# Altium footprint library Master_PcbLib.PcbLib: 18 footprints (part 1 of 2)
Each footprint in its own frame and in the unit in brackets; x right, y up, seen from the top. Pads: shape width x height; smd on the part's side, far side on the other; paste and mask are expansions set on the pad; w line width, h text height; cw(c..) or ccw(c..) is an arc to the next point about the centre after c.
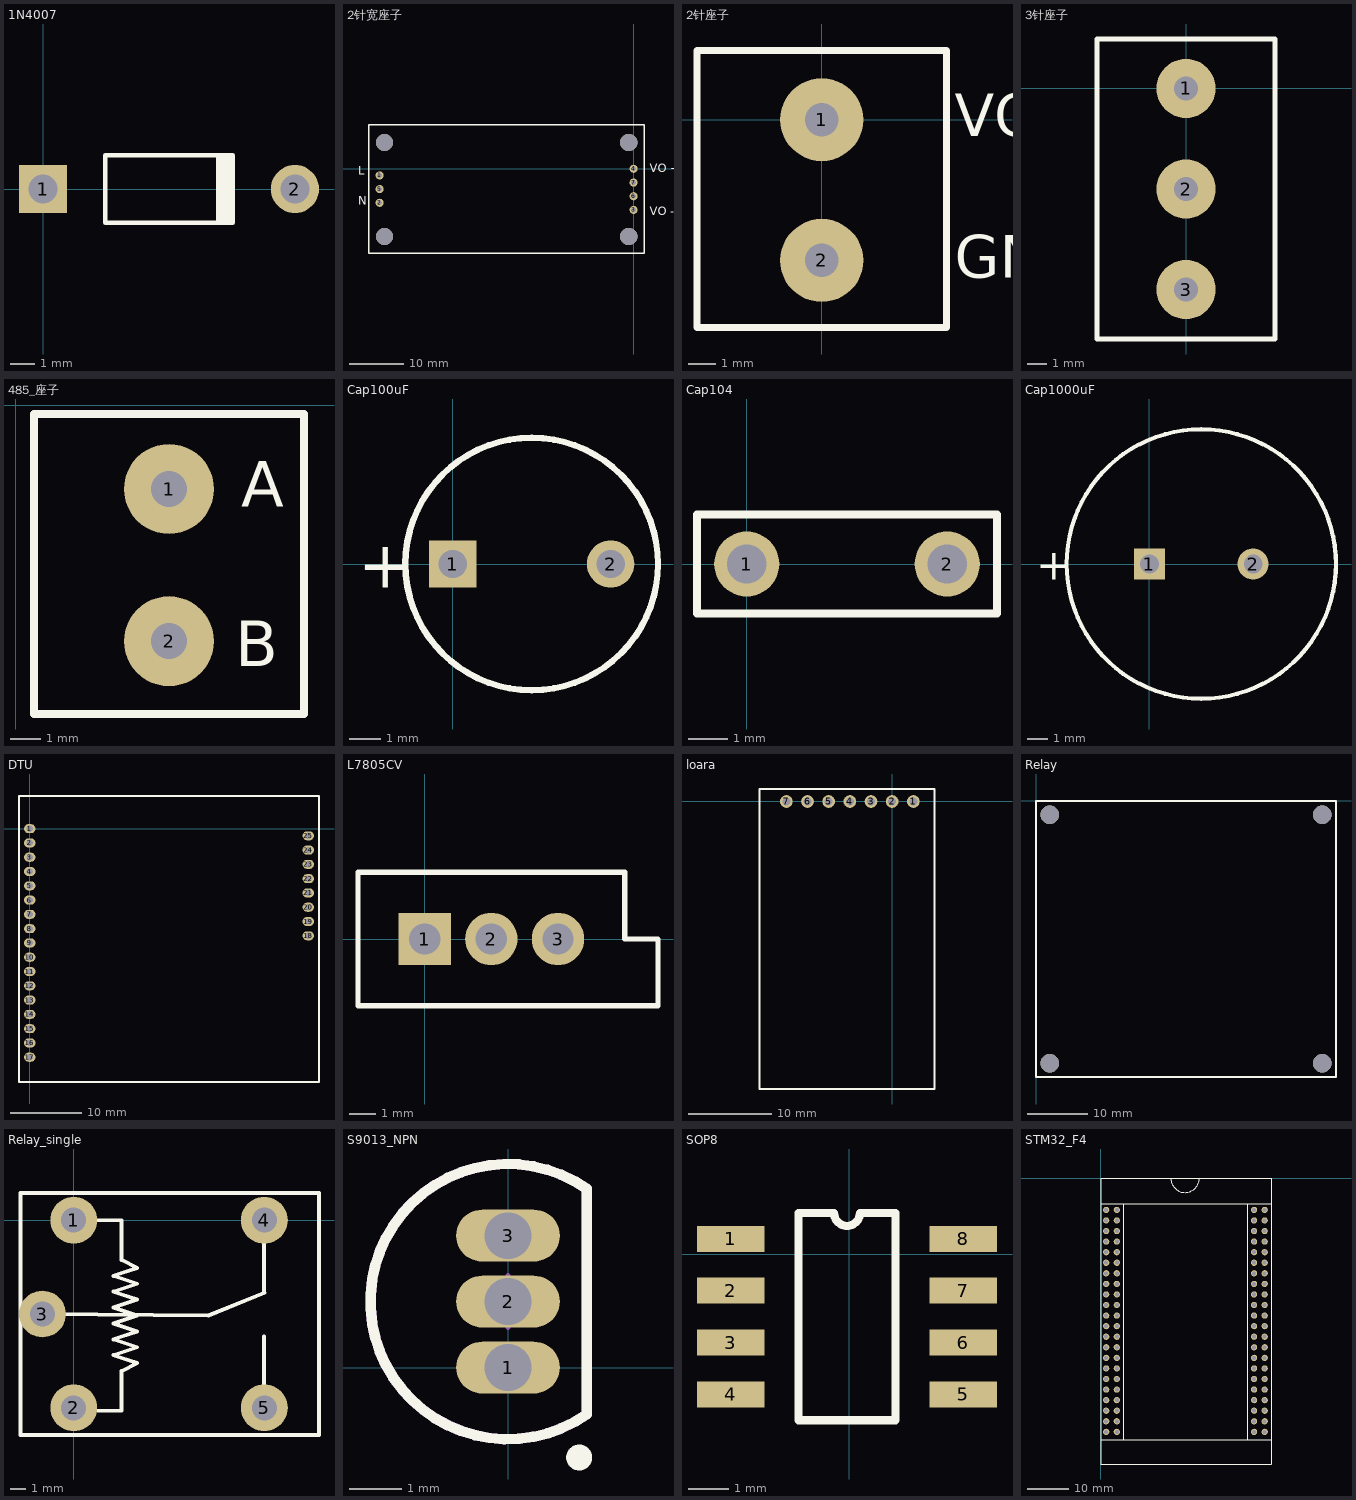
[diagram p0: the footprints below, top view; thin cyan lines are the x and y axes]

## 1N4007 [mm]
pads (2):
  rect 2x2 hole 1.2: 1(0,0)
  round 2 hole 1.2: 2(10.46,0)
Top Overlay:
  rectangle: 7.18,-1.4 7.98,1.4
  lines w0.2: 7.88,-1.4 2.58,-1.4 2.58,1.4 7.88,1.4

## 2针宽座子 [mm]
pads (7):
  round 1.5 hole 0.9: 1(-47,-1.21) 2(-47,-6.29) 3(0,-7.62) 4(0,0) 5(-47,-3.75) 6(0,-5.08) 7(0,-2.54)
via -46.1,4.86 diameter 3.2 hole 3.2
via -46.1,-12.54 diameter 3.2 hole 3.2
via -0.9,-12.54 diameter 3.2 hole 3.2
via -0.9,4.86 diameter 3.2 hole 3.2
Top Overlay:
  lines w0.254: -49,-15.64 2,-15.64 2,8.16 -49,8.16 -49,-15.64
  text "L" at -51,-1.14 h1.52
  text "N" at -51,-6.64 h1.52
  text "VO +" at 3,-0.64 h1.52
  text "VO -" at 3,-8.64 h1.52

## 2针座子 [mm]
pads (2):
  round 3 hole 1.2: 1(0,0) 2(0,-5.075)
Top Overlay:
  lines w0.254: -4.5,-7.5 4.5,-7.5 4.5,2.5 -4.5,2.5 -4.5,-7.5
  text "GND" at 4.8,-5.7 h1.52
  text "VCC" at 4.8,-0.6 h1.52

## 3针座子 [mm]
pads (3):
  round 3 hole 1.2: 1(0,0) 2(0,-5.08) 3(0,-10.16)
Top Overlay:
  lines w0.254: -4.5,-12.66 -4.5,2.5 4.5,2.5 4.5,-12.66 -4.5,-12.66

## 485_座子 [mm]
pads (2):
  round 3 hole 1.2: 1(5.1,-2.8) 2(5.1,-7.875)
Top Overlay:
  lines w0.254: 0.6,-10.3 9.6,-10.3 9.6,-0.3 0.6,-0.3 0.6,-10.3
  text "B" at 7.3,-8.7 h1.52
  text "A" at 7.5,-3.4 h1.52

## Cap100uF [mm]
pads (2):
  rect 1.5x1.5 hole 0.9: 1(0,0)
  round 1.5 hole 0.9: 2(5,0)
Top Overlay:
  circle w0.2: c2.5,0 r4
  text "+" at -3,-0.752 h1.5

## Cap104 [mm]
pads (2):
  round 1.65 hole 1: 1(0,0) 2(5.08,0)
Top Overlay:
  lines w0.2: -1.26,-1.25 -1.26,1.25 6.34,1.25 6.34,-1.25 -1.26,-1.25

## Cap1000uF [mm]
pads (2):
  rect 1.5x1.5 hole 0.9: 1(0,0)
  round 1.5 hole 0.9: 2(5,0)
Top Overlay:
  circle w0.2: c2.5,0 r6.5
  text "+" at -5.475,-0.75 h1.5

## DTU [mm]
pads (25):
  oval 1.6x1.27 hole 0.9: 1(0,0) 2(0,-2) 3(0,-4) 4(0,-6) 5(0,-8) 6(0,-10) 7(0,-12) 8(0,-14) 9(0,-16) 10(0,-18) 11(0,-20) 12(0,-22) 13(0,-24) 14(0,-26) 15(0,-28) 16(0,-30) 17(0,-32) 18(39,-15) 19(39,-13) 20(39,-11) 21(39,-9) 22(39,-7) 23(39,-5) 24(39,-3) 25(39,-1)
Top Overlay:
  lines w0.254: -1.5,-35.45 40.5,-35.45 40.5,4.55 -1.5,4.55 -1.5,-35.45

## L7805CV [mm]
pads (3):
  rect 2x2 hole 1.2: 1(0,0)
  round 2 hole 1.2: 2(2.54,0) 3(5.08,0)
Top Overlay:
  lines w0.2: -2.54,-2.54 -2.54,2.54 7.62,2.54 7.62,0 8.89,0 8.89,-2.54 -2.54,-2.54

## loara [mil]
pads (7):
  round 60 hole 37.8: 1(100,0) 2(0,0) 3(-100,0) 4(-200,0) 5(-300,0) 6(-400,0) 7(-500,0)
Top Overlay:
  lines w10: -626.8,-1358.27 -626.8,59.06 199.97,59.06 199.97,-1358.27 -626.8,-1358.27

## Relay [mm]
via 2.3,-43.7 diameter 3.1 hole 3.1
via 47.7,-43.7 diameter 3.1 hole 3.1
via 47.7,-2.3 diameter 3.1 hole 3.1
via 2.3,-2.3 diameter 3.1 hole 3.1
Top Overlay:
  lines w0.254: 0,-46 0,0 50,0 50,-46 0,-46

## Relay_single [mm]
pads (5):
  round 3 hole 1.6: 1(0,0) 2(0,-12) 3(-2,-6) 4(12.2,0) 5(12.2,-12)
Top Overlay:
  lines w0.254: -2,-6 8.636,-6.096 12.22,-4.64 ; 1.524,-12.192 3.048,-12.192 3.048,-10.668 3.048,-9.652 4.064,-9.144 2.54,-8.636 4.064,-8.128 2.54,-7.62 4.064,-7.112 2.54,-6.604 4.064,-6.096 2.54,-5.588 4.064,-5.08 2.54,-4.572 4.064,-4.064 2.54,-3.556 4.064,-3.048 3.048,-2.54 3.048,0 1.524,0 ; 12.192,-10.668 12.192,-8.636 ; 12.192,-9.144 12.192,-7.429 ; 12.192,-4.572 12.192,-1.524 ; -3.4,-13.75 -3.4,1.75 15.7,1.75 15.7,-13.75 -3.4,-13.75
3D body "SRD-C_BK.STEP": height 15.6, standoff -3.4, extent -3.4,-13.75 15.7,1.75

## S9013_NPN [mm]
pads (3):
  oval 2x1 hole 0.9: 1(0,0) 2(0,1.27) 3(0,2.54)
Top Overlay:
  circle w0.25: c1.371,-1.733 r0.125
  lines w0.2: 1.52,-0.901 cw(c0,1.27) 1.52,3.441 1.52,-0.901
Mechanical 13:
  lines w0.2: 1.52,-0.901 cw(c0,1.27) 1.52,3.441 1.52,-0.901
Mechanical 15:
  lines w0.1: -0.5,1.27 0.5,1.27 ; 0,0.77 0,1.77
3D body: height 5.33, standoff 0, extent -2.651,-1.391 1.52,3.931

## SOP8 [mm]
pads (8):
  rect 1.651x0.635 smd: 1(-2.905,0.38) 2(-2.905,-0.89) 3(-2.905,-2.16) 4(-2.905,-3.43) 5(2.795,-3.43) 6(2.795,-2.16) 7(2.795,-0.89) 8(2.795,0.38)
Top Overlay:
  lines w0.2: -1.244,-4.065 -1.244,1.015 -0.373,1.015 ccw(c-0.055,1.015) 0.262,1.015 1.134,1.015 1.134,-4.065 -1.244,-4.065

## STM32_F4 [mm]
pads (88):
  round 1.5 hole 0.96: 1(1.275,-7.625) 2(1.275,-10.165) 3(1.275,-12.706) 4(1.275,-15.246) 5(1.275,-17.787) 6(1.275,-20.327) 7(1.275,-22.868) 8(1.275,-25.408) 9(1.275,-27.949) 10(1.275,-30.489) 11(1.275,-33.03) 12(1.275,-35.57) 13(1.275,-38.111) 14(1.275,-40.651) 15(1.275,-43.192) 16(1.275,-45.732) 17(1.275,-48.273) 18(1.275,-50.813) 19(1.275,-53.354) 20(1.275,-55.894) 21(1.275,-58.435) 22(1.275,-60.975) 23(3.815,-7.625) 24(3.815,-10.166) 25(3.815,-12.706) 26(3.815,-15.246) 27(3.815,-17.787) 28(3.815,-20.327) 29(3.815,-22.868) 30(3.815,-25.408) 31(3.815,-27.949) 32(3.815,-30.489) 33(3.815,-33.03) 34(3.815,-35.57) 35(3.815,-38.111) 36(3.815,-40.651) 37(3.815,-43.192) 38(3.815,-45.732) 39(3.815,-48.273) 40(3.815,-50.813) 41(3.815,-53.354) 42(3.815,-55.894) 43(3.815,-58.435) 44(3.815,-60.975) 45(36.815,-7.625) 46(36.815,-10.166) 47(36.815,-12.706) 48(36.815,-15.246) 49(36.815,-17.787) 50(36.815,-20.327) 51(36.815,-22.868) 52(36.815,-25.408) 53(36.815,-27.949) 54(36.815,-30.489) 55(36.815,-33.03) 56(36.815,-35.57) 57(36.815,-38.111) 58(36.815,-40.651) 59(36.815,-43.192) 60(36.815,-45.732) 61(36.815,-48.273) 62(36.815,-50.813) 63(36.815,-53.354) 64(36.815,-55.894) 65(36.815,-58.435) 66(36.815,-60.975) 67(39.355,-7.625) 68(39.355,-10.166) 69(39.355,-12.706) 70(39.355,-15.246) 71(39.355,-17.787) 72(39.355,-20.327) 73(39.355,-22.868) 74(39.355,-25.408) 75(39.355,-27.949) 76(39.355,-30.489) 77(39.355,-33.03) 78(39.355,-35.57) 79(39.355,-38.111) 80(39.355,-40.651) 81(39.355,-43.192) 82(39.355,-45.732) 83(39.355,-48.273) 84(39.355,-50.813) 85(39.355,-53.354) 86(39.355,-55.894) 87(39.355,-58.435) 88(39.355,-60.975)
Top Overlay:
  lines w0.254: 0.025,-62.925 5.35,-62.925 ; 0.025,-6.125 5.35,-6.125 5.35,-62.925 ; 5.475,-6.125 40.85,-6.125 ; 16.799,-0.076 ccw(c20.225,-0.025) 23.651,-0.025 ; 35.3,-62.925 35.3,-6.125 ; 40.875,-62.925 5.35,-62.925 ; 0,-68.7 33.27,-68.7 40.9,-68.7 40.9,0 0,0 0,-68.7